# EAGLE library part RXD-433-KH (library LINX)
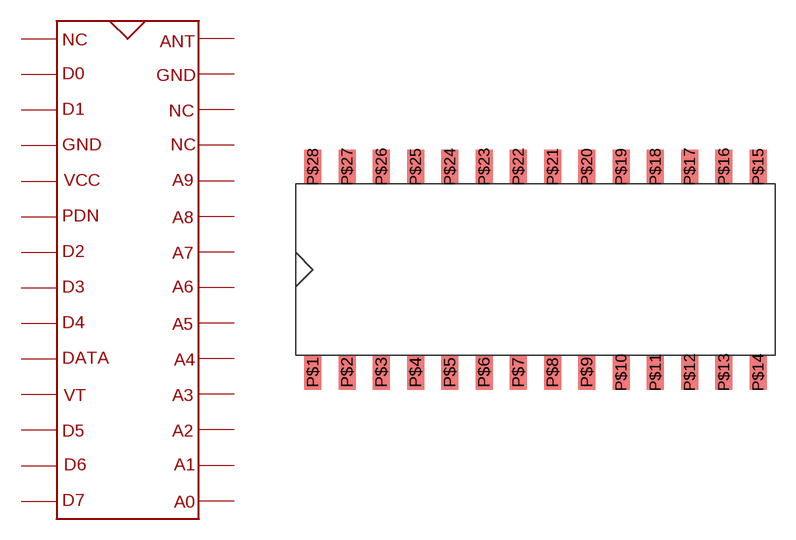
[diagram p4: symbol with the pads of RXD-433-KH; footprint RXD-433-KH]

Designator prefix -

## RXD-433-KH  [RXD-433-KH]
P$1  P$1
P$2  P$2
P$3  P$3
P$4  P$4
P$5  P$5
P$6  P$6
P$7  P$7
P$8  P$8
P$9  P$9
P$10  P$10
P$11  P$11
P$12  P$12
P$13  P$13
P$14  P$14
P$15  P$15
P$16  P$16
P$17  P$17
P$18  P$18
P$19  P$19
P$20  P$20
P$21  P$21
P$22  P$22
P$23  P$23
P$24  P$24
P$25  P$25
P$26  P$26
P$27  P$27
P$28  P$28

## Footprint RXD-433-KH (pad centres in mm)
smd 1.27 x 2.54: P$1 0,0; P$2 2.54,0; P$3 5.08,0; P$4 7.62,0; P$5 10.16,0; P$6 12.7,0; P$7 15.24,0; P$8 17.78,0; P$9 20.32,0; P$10 22.86,0; P$11 25.4,0; P$12 27.94,0; P$13 30.48,0; P$14 33.02,0; P$15 33.02,15.24; P$16 30.48,15.24; P$17 27.94,15.24; P$18 25.4,15.24; P$19 22.86,15.24; P$20 20.32,15.24; P$21 17.78,15.24; P$22 15.24,15.24; P$23 12.7,15.24; P$24 10.16,15.24; P$25 7.62,15.24; P$26 5.08,15.24; P$27 2.54,15.24; P$28 0,15.24